# Altium footprint library PcbLib1.PcbLib: 1 footprints
Each footprint in its own frame and in the unit in brackets; x right, y up, seen from the top. Pads: shape width x height; smd on the part's side, far side on the other; paste and mask are expansions set on the pad; w line width, h text height; cw(c..) or ccw(c..) is an arc to the next point about the centre after c.
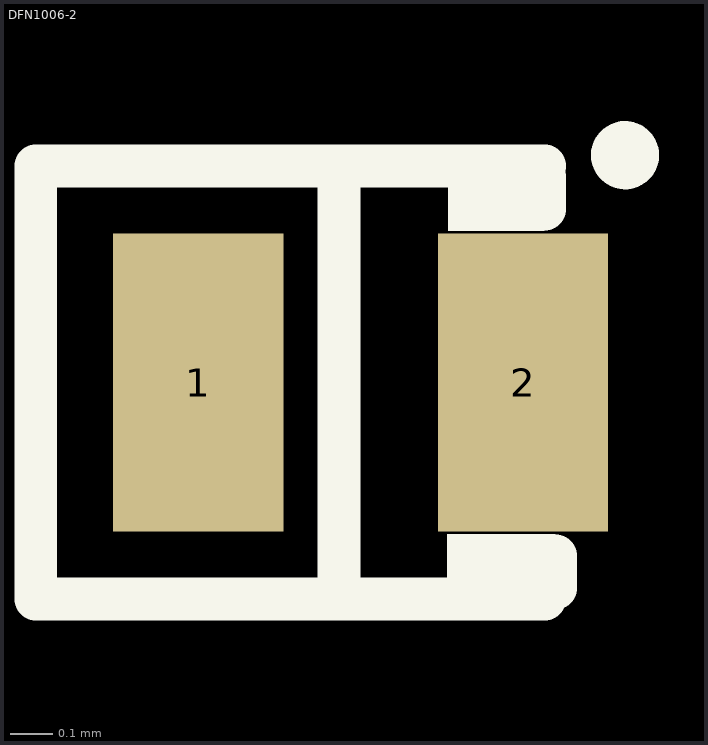
[diagram p0: the footprint, top view; thin cyan lines are the x and y axes]

## DFN1006-2 [mm]
pads (2):
  rect 0.4x0.7 smd: 1(-68.453,-12.954) 2(-67.691,-12.954)
Top Overlay:
  circle w0.08: c-67.452,-12.421 r0.04
  rectangle: -67.869,-13.487 -67.615,-13.31
  rectangle: -67.867,-12.598 -67.64,-12.421
  lines w0.1: -68.123,-13.462 -68.123,-12.446 ; -67.64,-13.462 -68.834,-13.462 -68.834,-12.446 -67.64,-12.446 ; -67.64,-12.548 -67.64,-12.471 ; -67.615,-13.437 -67.615,-13.36